# Altium schematic symbol library generic_smd_chip_capacitors.SchLib: 1 symbol
Pins are listed as number, name and electrical type; pins without a type are passive.

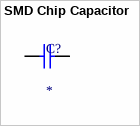
[diagram p0: symbol SMD Chip Capacitor]

## SMD Chip Capacitor
designator C?
generic SMD chip capacitor; Value: *; Part Number: *; Manufacturer: *
footprint GENERIC_CHIP_CAP_0402_IPC_HIGH_DENSITY (Generic Chip Capacitor, 0402, 1.00x0.50mm, IPC High Density)
footprint GENERIC_CHIP_CAP_0402_IPC_LOW_DENSITY (Generic Chip Capacitor, 0402, 1.00x0.50mm, IPC Low Density)
footprint GENERIC_CHIP_CAP_0402_IPC_MEDIUM_DENSITY (Generic Chip Capacitor, 0402, 1.00x0.50mm, IPC Medium Density)
footprint GENERIC_CHIP_CAP_0603_IPC_HIGH_DENSITY (Generic Chip Capacitor, 0603, 1.60x0.80mm, IPC High Density)
footprint GENERIC_CHIP_CAP_0603_IPC_LOW_DENSITY (Generic Chip Capacitor, 0603, 1.60x0.80mm, IPC Low Density)
footprint GENERIC_CHIP_CAP_0603_IPC_MEDIUM_DENSITY (Generic Chip Capacitor, 0603, 1.60x0.80mm, IPC Medium Density)
footprint GENERIC_CHIP_CAP_0805_IPC_HIGH_DENSITY (Generic Chip Capacitor, 0805, 2.00x1.25mm, IPC High Density)
footprint GENERIC_CHIP_CAP_0805_IPC_LOW_DENSITY (Generic Chip Capacitor, 0805, 2.00x1.25mm, IPC Low Density)
footprint GENERIC_CHIP_CAP_0805_IPC_MEDIUM_DENSITY (Generic Chip Capacitor, 0805, 2.00x1.25mm, IPC Medium Density)
footprint GENERIC_CHIP_CAP_1206_IPC_HIGH_DENSITY (Generic Chip Capacitor, 1206, 3.20x1.60mm, IPC High Density)
footprint GENERIC_CHIP_CAP_1206_IPC_LOW_DENSITY (Generic Chip Capacitor, 1206, 3.20x1.60mm, IPC Low Density)
footprint GENERIC_CHIP_CAP_1206_IPC_MEDIUM_DENSITY (Generic Chip Capacitor, 1206, 3.20x1.60mm, IPC Medium Density)
pins: 1, 2